# Altium footprint library SOT.PcbLib: 9 footprints
Each footprint in its own frame and in the unit in brackets; x right, y up, seen from the top. Pads: shape width x height; smd on the part's side, far side on the other; paste and mask are expansions set on the pad; w line width, h text height; cw(c..) or ccw(c..) is an arc to the next point about the centre after c.
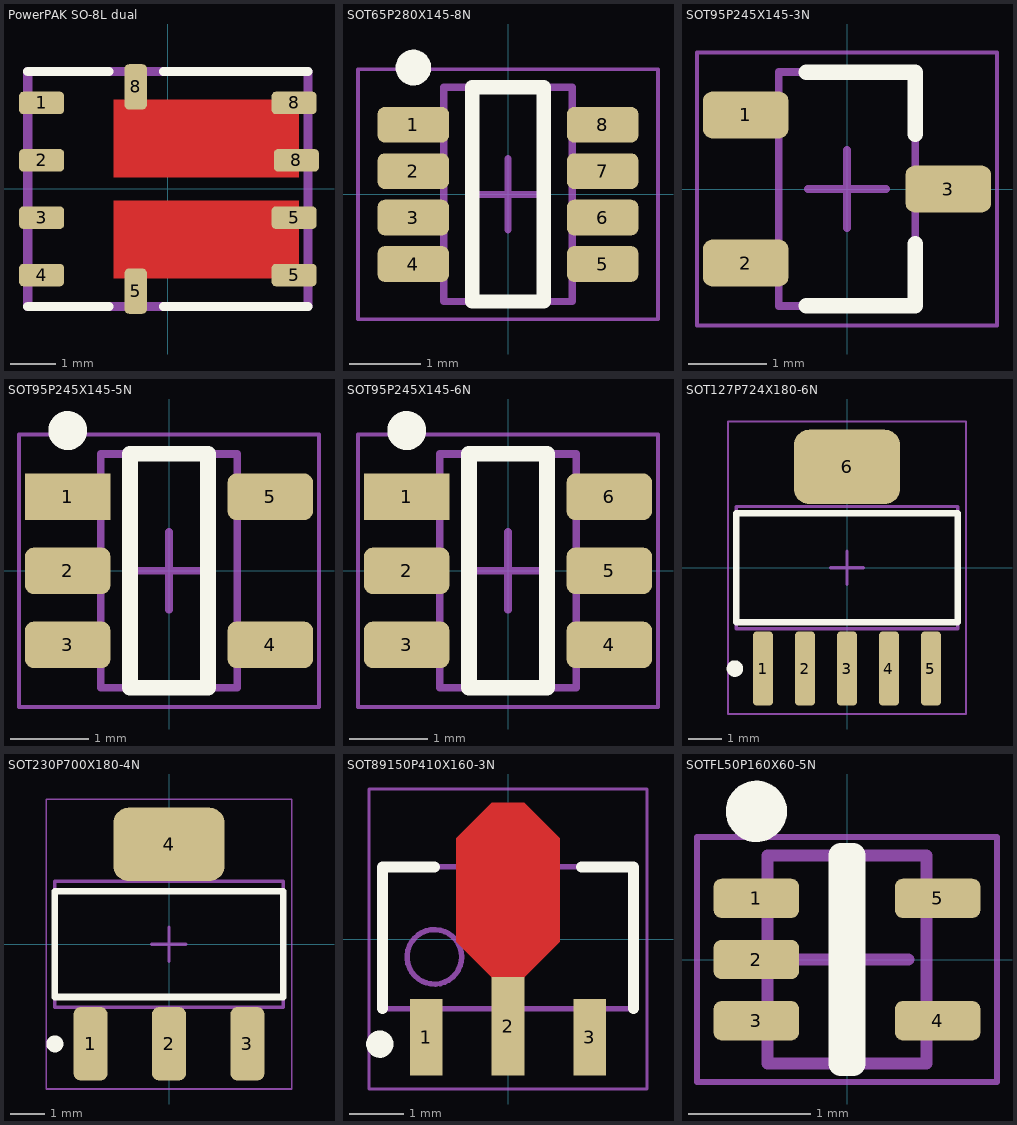
[diagram p0: the footprints below, top view; thin cyan lines are the x and y axes]

## PowerPAK SO-8L dual [mm] "Vishay PowerPAK SO-8L footprint"
pads (10):
  rrect40% 1x0.5 smd: 1(-2.794,1.905) 2(-2.794,0.635) 3(-2.794,-0.635) 4(-2.794,-1.905) 5(2.794,-1.905) 5(2.794,-0.635) 8(2.794,1.905) 8(2.845,0.635)
  rrect40% 0.5x1 smd: 5(-0.711,-2.261) 8(-0.711,2.261)
Top Layer:
  rectangle: -1.2,-1.98 2.9,-0.25
  rectangle: -1.2,0.25 2.9,1.98
Top Overlay:
  lines w0.2: -3.1,-2.6 -1.3,-2.6 ; -3.1,2.6 -1.3,2.6 ; -0.1,-2.6 3.1,-2.6 ; -0.1,2.6 3.1,2.6
Top Paste:
  rectangle: -0.95,0.474 1.9,1.549
  rectangle: -0.95,-1.55 1.9,-0.475
Top Solder:
  rectangle: -1.3,-2.08 3,-0.155
  rectangle: -1.3,0.15 3,2.075
Top Assembly:
  lines w0.2: -3.1,-2.6 3.1,-2.6 3.1,2.6 -3.1,2.6 -3.1,-2.6
3D body "User Library-PowerPAK SO-8 (D).step": height 1.04, standoff 0, extent -3.075,-2.575 3.075,2.575

## SOT65P280X145-8N [mm] "SOT23 8-Leads, Body 2,90x1,68mm, Pitch 0,65mm, IPC Medium Density"
height 1.45
pads (8):
  rrect40% 1x0.5 smd: 1(-1.325,0.975) 2(-1.325,0.325) 3(-1.325,-0.325) 4(-1.325,-0.975) 5(1.325,-0.975) 6(1.325,-0.325) 7(1.325,0.325) 8(1.325,0.975)
Top Overlay:
  circle w0.25: c-1.325,1.775 r0.125
  lines w0.2: -0.5,-1.5 0.5,-1.5 0.5,1.5 -0.5,1.5 -0.5,-1.5
Top Assembly:
  lines w0.1: -0.9,-1.5 0.9,-1.5 0.9,1.5 -0.9,1.5 -0.9,-1.5
Mechanical 15:
  lines w0.05: -2.1,-1.75 2.1,-1.75 2.1,1.75 -2.1,1.75 -2.1,-1.75
  lines w0.1: -0.5,0 0.5,0 ; 0,-0.5 0,0.5
3D body "TSOP65P280X145-8N.step": height 1.45, standoff 0, extent -1.4,-1.5 1.4,1.5

## SOT95P245X145-3N [mm] "SOT23, 3-Leads, Body 2,90x2,45mm, Pitch 0,95mm, IPC Medium Density"
height 1.45
pads (3):
  rrect40% 1.1x0.6 smd: 1(-1.3,0.95) 2(-1.3,-0.95) 3(1.3,0)
Top Overlay:
  lines w0.2: -0.525,-1.5 0.875,-1.5 0.875,-0.7 ; -0.525,1.5 0.875,1.5 0.875,0.7
Top Assembly:
  lines w0.1: -0.875,-1.5 -0.875,1.5 0.875,1.5 0.875,-1.5 -0.875,-1.5
Mechanical 15:
  lines w0.05: -1.925,-1.75 -1.925,1.75 1.925,1.75 1.925,-1.75 -1.925,-1.75
  lines w0.1: -0.5,0 0.5,0 ; 0,-0.5 0,0.5
3D body "SOT95P245X145-3N.step": height 1.45, standoff 0, extent -1.3,-1.5 1.3,1.5

## SOT95P245X145-5N [mm] "SOT23, 5-Leads, Body 2,90x2,45mm, Pitch 0,95mm, IPC Medium Density"
height 1.45
pads (5):
  rect 1.1x0.6 smd: 1(-1.3,0.95)
  rrect40% 1.1x0.6 smd: 2(-1.3,0) 3(-1.3,-0.95) 4(1.3,-0.95) 5(1.3,0.95)
Top Overlay:
  circle w0.25: c-1.3,1.8 r0.125
  lines w0.2: -0.5,-1.5 0.5,-1.5 0.5,1.5 -0.5,1.5 -0.5,-1.5
Top Assembly:
  lines w0.1: -0.875,-1.5 -0.875,1.5 0.875,1.5 0.875,-1.5 -0.875,-1.5
Mechanical 15:
  lines w0.05: -1.925,-1.75 -1.925,1.75 1.925,1.75 1.925,-1.75 -1.925,-1.75
  lines w0.1: -0.5,0 0.5,0 ; 0,-0.5 0,0.5
3D body "SOT95P245X145-5N.step": height 1.45, standoff 0, extent -1.3,-1.5 1.3,1.5

## SOT95P245X145-6N [mm] "SOT23, 6-Leads, Body 2,90x2,45mm, Pitch 0,95mm, IPC Medium Density"
height 1.45
pads (6):
  rect 1.1x0.6 smd: 1(-1.3,0.95)
  rrect40% 1.1x0.6 smd: 2(-1.3,0) 3(-1.3,-0.95) 4(1.3,-0.95) 5(1.3,0) 6(1.3,0.95)
Top Overlay:
  circle w0.25: c-1.3,1.8 r0.125
  lines w0.2: -0.5,-1.5 0.5,-1.5 0.5,1.5 -0.5,1.5 -0.5,-1.5
Top Assembly:
  lines w0.1: -0.875,-1.5 0.875,-1.5 0.875,1.5 -0.875,1.5 -0.875,-1.5
Mechanical 15:
  lines w0.05: -1.925,-1.75 -1.925,1.75 1.925,1.75 1.925,-1.75 -1.925,-1.75
  lines w0.1: -0.5,0 0.5,0 ; 0,-0.5 0,0.5
3D body "SOT95P245X145-6N.step": height 1.45, standoff 0, extent -1.3,-1.5 1.3,1.5

## SOT127P724X180-6N [mm] "SOT223, 6-Leads, Body 6,50x7,24mm (avg), Pitch 1,27mm, IPC Medium Density"
height 1.8
pads (6):
  rrect40% 0.6x2.25 smd: 1(-2.54,-3.05) 2(-1.27,-3.05) 3(0,-3.05) 4(1.27,-3.05) 5(2.54,-3.05)
  rrect40% 3.2x2.25 smd: 6(0,3.05)
Top Overlay:
  circle w0.25: c-3.39,-3.05 r0.125
  lines w0.2: -3.35,-1.65 -3.35,1.65 3.35,1.65 3.35,-1.65 -3.35,-1.65
Top Assembly:
  lines w0.1: -3.35,-1.85 -3.35,1.85 3.35,1.85 3.35,-1.85 -3.35,-1.85
Mechanical 15:
  lines w0.05: -3.6,-4.425 -3.6,4.425 3.6,4.425 3.6,-4.425 -3.6,-4.425
  lines w0.1: -0.5,0 0.5,0 ; 0,-0.5 0,0.5
3D body "SOT127P724X180-6N.step": height 1.8, standoff 0, extent -3.35,-3.62 3.35,3.62

## SOT230P700X180-4N [mm] "SOT223, 4-Leads, Body 6,50x7,00mm (avg), Pitch 2,30mm, IPC Medium Density"
height 1.8
pads (4):
  rrect40% 1x2.15 smd: 1(-2.3,-2.925) 2(0,-2.925) 3(2.3,-2.925)
  rrect40% 3.25x2.15 smd: 4(0,2.925)
Top Overlay:
  circle w0.25: c-3.35,-2.925 r0.125
  lines w0.2: -3.35,-1.55 3.35,-1.55 3.35,1.55 -3.35,1.55 -3.35,-1.55
Top Assembly:
  lines w0.1: -3.35,-1.85 3.35,-1.85 3.35,1.85 -3.35,1.85 -3.35,-1.85
Mechanical 15:
  lines w0.05: -3.6,-4.25 3.6,-4.25 3.6,4.25 -3.6,4.25 -3.6,-4.25
  lines w0.1: -0.5,0 0.5,0 ; 0,-0.5 0,0.5
3D body "SOT230P700X180-4N.step": height 1.8, standoff 0, extent -3.35,-3.5 3.35,3.5

## SOT89150P410X160-3N [mm] "SOT89, 3-Leads, Body 4,50x2,45mm, Pitch 1,50mm, Lead Span 4,1mm, IPC Medium Density"
height 1.6
pads (3):
  rect 0.6x1.4 smd: 1(-1.5,-1.8) 3(1.5,-1.8)
  rect 0.6x1.8 smd: 2(0,-1.6)
Top Layer:
  region: -0.3,-0.7 -0.95,-0.05 -0.95,1.85 -0.3,2.5 0.3,2.5 0.95,1.85 0.95,-0.05 0.3,-0.7
Top Overlay:
  circle w0.25: c-2.35,-1.927 r0.125
  lines w0.2: -2.3,-1.278 -2.3,1.322 -1.35,1.322 ; 1.35,1.322 2.3,1.322 2.3,-1.278
Top Assembly:
  circle w0.1: c-1.35,-0.327 r0.5
  lines w0.1: -2.3,-1.278 -2.3,1.322 2.3,1.322 2.3,-1.278 -2.3,-1.278
Mechanical 15:
  lines w0.05: -2.55,-2.75 -2.55,2.75 2.55,2.75 2.55,-2.75 -2.55,-2.75
  lines w0.1: -0.5,0.022 0.5,0.022 ; 0,-0.477 0,0.523
3D body "SOT89-150P410X160-3N.step": height 1.6, standoff 0, extent -2.3,-2.2 2.3,1.85

## SOTFL50P160X60-5N [mm] "SOTFL, 5-Leads, Body 1,60x1,60mm, Pitch 0,50mm, IPC Medium Density"
height 0.6
pads (5):
  rrect40% 0.7x0.32 smd: 1(-0.74,0.5) 2(-0.74,0) 3(-0.74,-0.5) 4(0.74,-0.5) 5(0.74,0.5)
Top Overlay:
  circle w0.25: c-0.74,1.21 r0.125
  lines w0.2: -0.05,-0.85 0.05,-0.85 0.05,0.85 -0.05,0.85 -0.05,-0.85
Top Assembly:
  lines w0.1: -0.65,-0.85 -0.65,0.85 0.65,0.85 0.65,-0.85 -0.65,-0.85
Mechanical 15:
  lines w0.05: -1.225,-1 -1.225,1 1.225,1 1.225,-1 -1.225,-1
  lines w0.1: -0.5,0 0.5,0 ; 0,-0.5 0,0.5
3D body "SOTFL50P160X60-5N.step": height 0.6, standoff 0, extent -0.8,-0.848 0.8,0.848